# Altium footprint library ELKO10.PcbLib: 1 footprints
Each footprint in its own frame and in the unit in brackets; x right, y up, seen from the top. Pads: shape width x height; smd on the part's side, far side on the other; paste and mask are expansions set on the pad; w line width, h text height; cw(c..) or ccw(c..) is an arc to the next point about the centre after c.
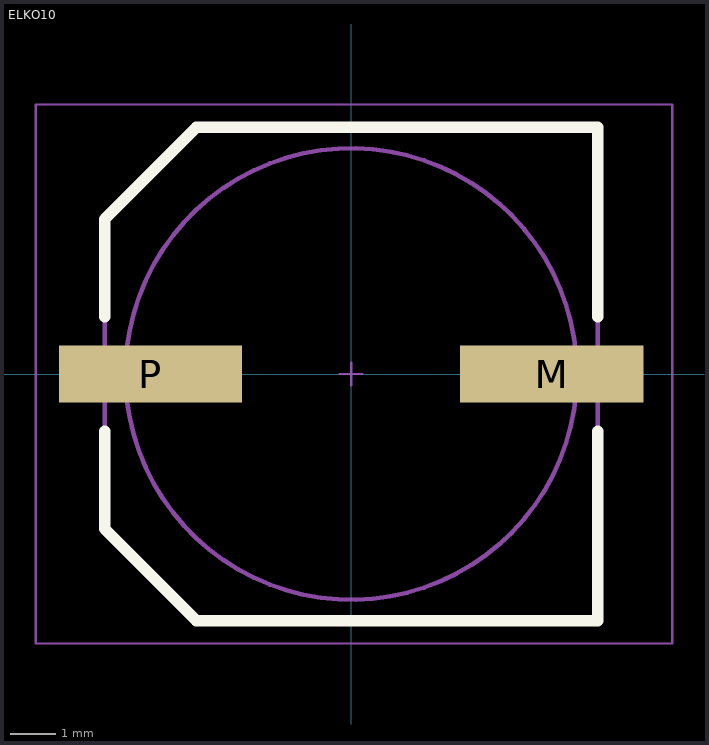
[diagram p0: the footprint, top view; thin cyan lines are the x and y axes]

## ELKO10 [mil]
pads (2):
  rect 160x50 smd: M(175,0) P(-175,0)
Top Overlay:
  lines w10: -215,-50 -215,-135 -135,-215 215,-215 215,-50 ; -215,50 -215,135 -135,215 215,215 215,50
Mechanical 13:
  circle w3.94: c0,0 r196.85
  lines w3.94: -215,-135 -135,-215 215,-215 215,215 -135,215 -215,135 -215,-135
Mechanical 15:
  lines w1.97: -10,0 10,0 ; 0,-10 0,10 ; -275,-235 -275,235 280,235 280,-235 -275,-235
3D body: height 39.37, standoff 0, extent -215,-216.97 216.97,216.97
3D body: height 417.32, standoff 0, extent -200.41,-200.41 200.41,200.41